# Altium schematic symbol library QD3503728_原理图封装库.SchLib: 1 symbol
Pins are listed as number, name and electrical type; pins without a type are passive.

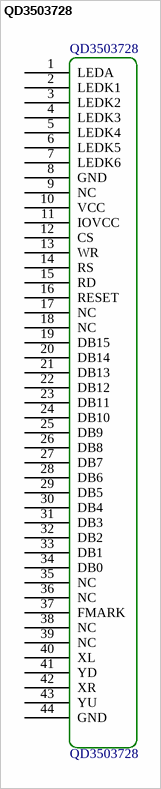
[diagram p0: symbol QD3503728]

## QD3503728
designator QD3503728
footprint QD3503728 (Footprint not found)
pins: 1 LEDA, 2 LEDK1, 3 LEDK2, 4 LEDK3, 5 LEDK4, 6 LEDK5, 7 LEDK6, 8 GND, 9 NC, 10 VCC, 11 IOVCC, 12 CS, 13 WR, 14 RS, 15 RD, 16 RESET, 17 NC, 18 NC, 19 DB15, 20 DB14, 21 DB13, 22 DB12, 23 DB11, 24 DB10, 25 DB9, 26 DB8, 27 DB7, 28 DB6, 29 DB5, 30 DB4, 31 DB3, 32 DB2, 33 DB1, 34 DB0, 35 NC, 36 NC, 37 FMARK, 38 NC, 39 NC, 40 XL, 41 YD, 42 XR, 43 YU, 44 GND